# Altium footprint library PassiveSMT.PcbLib: 41 footprints (part 2 of 3)
Each footprint in its own frame and in the unit in brackets; x right, y up, seen from the top. Pads: shape width x height; smd on the part's side, far side on the other; paste and mask are expansions set on the pad; w line width, h text height; cw(c..) or ccw(c..) is an arc to the next point about the centre after c.
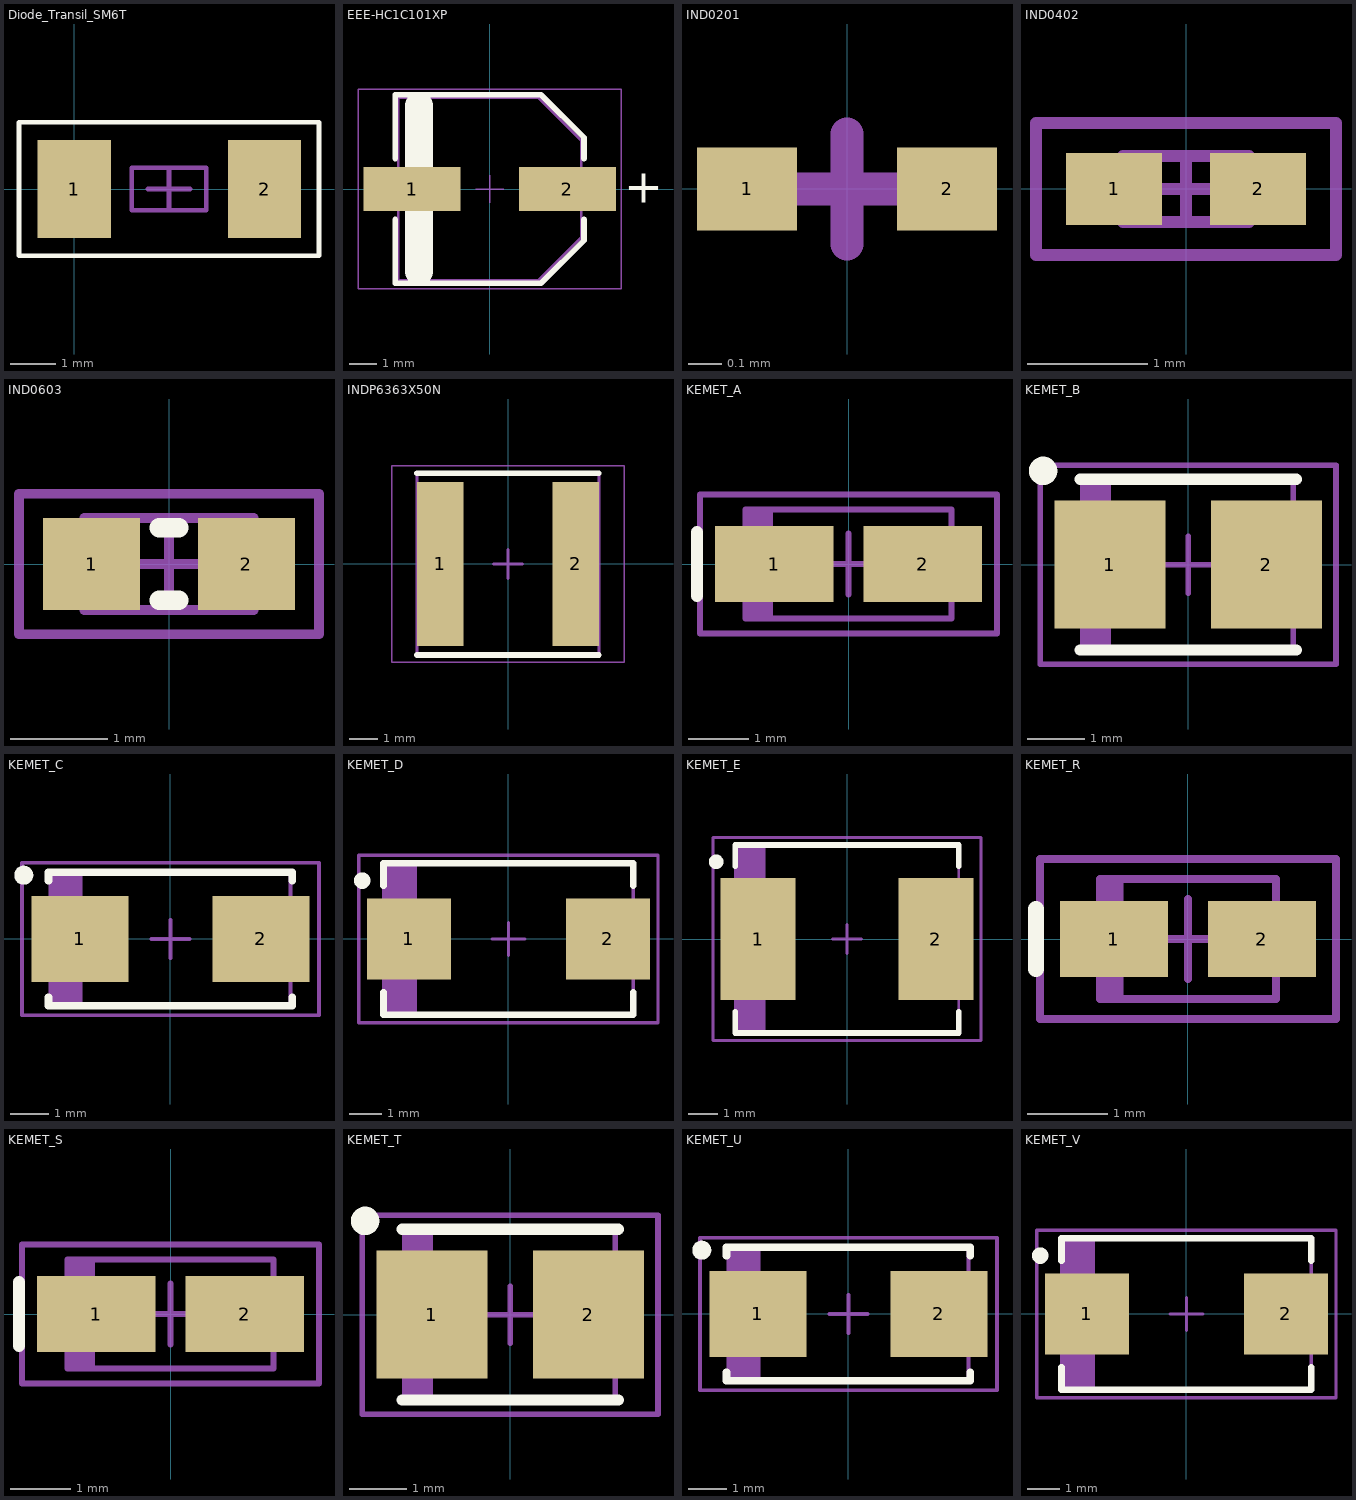
[diagram p1: the footprints below, top view; thin cyan lines are the x and y axes]

## Diode_Transil_SM6T [mm] "Diode_Transil_SM6T"
pads (2):
  rect 1.62x2.18 smd: 1(0,0) 2(4.22,0)
Top Overlay:
  lines w0.1: 1.788,-1.475 5.425,-1.475 5.425,0.025 ; 1.787,1.475 5.425,1.475 5.425,-0.025 ; 1.825,-1.475 1.063,-1.475 -0.462,-1.475 -1.225,-1.475 -1.225,1.475 -0.463,1.475 1.062,1.475 1.825,1.475
Mechanical 13:
  lines w0.1: 1.275,-0.475 1.275,0.475 2.925,0.475 2.925,-0.475 1.275,-0.475
Mechanical 15:
  lines w0.1: 1.625,0 2.575,0 ; 2.1,-0.475 2.1,0.475
3D body "RES0603.stp": height 0.45, standoff 0, extent 1.3,-0.4 2.9,0.4

## EEE-HC1C101XP [mm] "EEE-HC1C101XP"
pads (2):
  rect 3.5x1.6 smd: 1(-2.8,0) 2(2.8,0)
Top Overlay:
  lines w0.2: -3.4,-1.1 -3.4,-3.4 1.85,-3.4 3.4,-1.85 3.4,-1.1 ; -3.4,1.1 -3.4,3.4 1.85,3.4 3.4,1.85 3.4,1.1
  lines w1: -2.55,-2.975 -2.55,3
  text "+" at 4.85,-0.5 h1.22
Mechanical 13:
  lines w0.1: -3.3,-3.3 -3.3,3.3 1.75,3.3 3.3,1.75 3.3,-1.75 1.75,-3.3 -3.3,-3.3
Mechanical 15:
  lines w0.05: -0.5,0 0.5,0 ; 0,-0.5 0,0.5 ; -4.75,-3.6 -4.75,3.6 4.75,3.6 4.75,-3.6 -4.75,-3.6
3D body "6.3x7.7x2.2.stp": height 7.7, standoff 0, extent -3.65,-3.3 3.65,3.3

## IND0201 [mm] "Chip Inductor, 2-Leads, Body 0.6x0.3mm, IPC Medium Density"
height 0.3
pads (2):
  rect 0.3x0.25 smd: 1(-0.3,0) 2(0.3,0)
Mechanical 15:
  lines w0.1: -0.165,0 0.165,0 ; 0,-0.165 0,0.165
3D body: height 0.3, standoff 0, extent -0.315,-0.165 0.315,0.165

## IND0402 [mm] "Chip Inductor, 2-Leads, Body 1.0x0.5mm, IPC Medium Density"
height 0.5
pads (2):
  rect 0.8x0.6 smd: 1(-0.6,0) 2(0.6,0)
Mechanical 13:
  lines w0.1: -0.525,-0.275 -0.525,0.275 0.525,0.275 0.525,-0.275 -0.525,-0.275
Mechanical 15:
  lines w0.1: -0.275,0 0.275,0 ; 0,-0.275 0,0.275 ; -1.25,-0.55 -1.25,0.55 1.25,0.55 1.25,-0.55 -1.25,-0.55
3D body: height 0.5, standoff 0, extent -0.525,-0.275 0.525,0.275

## IND0603 [mm] "Chip Inductor, 2-Leads, Body 1.6x0.8mm, IPC Medium Density"
height 0.8
pads (2):
  rect 1x0.95 smd: 1(-0.8,0) 2(0.8,0)
Top Overlay:
  lines w0.2: -0.1,-0.375 0.1,-0.375 ; -0.1,0.375 0.1,0.375
Mechanical 13:
  lines w0.1: -0.875,-0.475 -0.875,0.475 0.875,0.475 0.875,-0.475 -0.875,-0.475
Mechanical 15:
  lines w0.1: -0.475,0 0.475,0 ; 0,-0.475 0,0.475 ; -1.55,-0.725 -1.55,0.725 1.55,0.725 1.55,-0.725 -1.55,-0.725
3D body: height 0.8, standoff 0, extent -0.875,-0.475 0.875,0.475

## INDP6363X50N [mm] "Precision Wire Wound Inductor, 2-Leads, Body 6,30x6,30mm, IPC Medium Density"
height 5
pads (2):
  rect 1.6x5.7 smd: 1(-2.35,0) 2(2.35,0)
Top Overlay:
  lines w0.2: -3.15,-3.15 3.15,-3.15 ; -3.15,3.15 3.15,3.15
Mechanical 13:
  lines w0.1: -3.15,-3.15 3.15,-3.15 3.15,3.15 -3.15,3.15 -3.15,-3.15
Mechanical 15:
  lines w0.05: -4.025,-3.4 4.025,-3.4 4.025,3.4 -4.025,3.4 -4.025,-3.4
  lines w0.1: -0.5,0 0.5,0 ; 0,-0.5 0,0.5
3D body: height 5, standoff 0, extent -3.15,-3.15 3.15,3.15

## KEMET_A [mm] "Molded Capacitor, 2-Leads, Body 3.2x1.6mm, IPC Medium Density"
height 1.8
pads (2):
  rect 1.95x1.25 smd: 1(-1.225,0) 2(1.225,0)
Top Overlay:
  lines w0.2: -2.5,-0.525 -2.5,0.525
Mechanical 13:
  rectangle: -1.7,-0.9 -1.243,0.9
  lines w0.1: -1.7,-0.9 -1.7,0.9 1.7,0.9 1.7,-0.9 -1.7,-0.9
Mechanical 15:
  lines w0.1: -0.5,0 0.5,0 ; 0,-0.5 0,0.5 ; -2.45,-1.15 -2.45,1.15 2.45,1.15 2.45,-1.15 -2.45,-1.15
3D body: height 1.8, standoff 0, extent -1.7,-0.9 1.7,0.9

## KEMET_B [mm] "Molded Capacitor, 2-Leads, Body 3.5x2.8mm, IPC Medium Density"
height 2.1
pads (2):
  rect 1.95x2.25 smd: 1(-1.375,0) 2(1.375,0)
Top Overlay:
  circle w0.25: c-2.55,1.65 r0.125
  lines w0.2: -1.9,-1.5 1.9,-1.5 ; -1.9,1.5 1.9,1.5
Mechanical 13:
  rectangle: -1.85,-1.5 -1.352,1.5
  lines w0.1: -1.85,-1.5 1.85,-1.5 1.85,1.5 -1.85,1.5 -1.85,-1.5
Mechanical 15:
  lines w0.1: -0.5,0 0.5,0 ; 0,-0.5 0,0.5 ; -2.6,-1.75 2.6,-1.75 2.6,1.75 -2.6,1.75 -2.6,-1.75
3D body: height 2.1, standoff 0, extent -1.85,-1.5 1.85,1.5

## KEMET_C [mm] "Molded Capacitor, 2-Leads, Body 6.0x3.2mm, IPC Medium Density"
height 2.8
pads (2):
  rect 2.55x2.25 smd: 1(-2.375,0) 2(2.375,0)
Top Overlay:
  circle w0.25: c-3.85,1.675 r0.125
  lines w0.2: -3.2,-1.525 -3.2,-1.75 3.2,-1.75 3.2,-1.525 ; -3.2,1.525 -3.2,1.75 3.2,1.75 3.2,1.525
Mechanical 13:
  rectangle: -3.15,-1.75 -2.303,1.75
  lines w0.1: -3.15,-1.75 3.15,-1.75 3.15,1.75 -3.15,1.75 -3.15,-1.75
Mechanical 15:
  lines w0.1: -0.5,0 0.5,0 ; 0,-0.5 0,0.5 ; -3.9,-2 3.9,-2 3.9,2 -3.9,2 -3.9,-2
3D body: height 2.8, standoff 0, extent -3.15,-1.75 3.15,1.75

## KEMET_D [mm] "Molded Capacitor, 2-Leads, Body 7.3x4.3mm, IPC Medium Density"
height 3.1
pads (2):
  rect 2.55x2.45 smd: 1(-3.025,0) 2(3.025,0)
Top Overlay:
  circle w0.25: c-4.45,1.775 r0.125
  lines w0.2: -3.8,-1.625 -3.8,-2.3 3.8,-2.3 3.8,-1.625 ; -3.8,1.625 -3.8,2.3 3.8,2.3 3.8,1.625
Mechanical 13:
  rectangle: -3.8,-2.3 -2.778,2.3
  lines w0.1: -3.8,-2.3 -3.8,2.3 3.8,2.3 3.8,-2.3 -3.8,-2.3
Mechanical 15:
  lines w0.1: -0.5,0 0.5,0 ; 0,-0.5 0,0.5 ; -4.55,-2.55 -4.55,2.55 4.55,2.55 4.55,-2.55 -4.55,-2.55
3D body: height 3.1, standoff 0, extent -3.8,-2.3 3.8,2.3

## KEMET_E [mm] "Molded Capacitor, 2-Leads, Body 7.3x6.0mm, IPC Medium Density"
height 3.8
pads (2):
  rect 2.55x4.15 smd: 1(-3.025,0) 2(3.025,0)
Top Overlay:
  circle w0.25: c-4.45,2.625 r0.125
  lines w0.2: -3.8,-2.475 -3.8,-3.2 3.8,-3.2 3.8,-2.475 ; -3.8,2.475 -3.8,3.2 3.8,3.2 3.8,2.475
Mechanical 13:
  rectangle: -3.8,-3.15 -2.778,3.15
  lines w0.1: -3.8,-3.15 3.8,-3.15 3.8,3.15 -3.8,3.15 -3.8,-3.15
Mechanical 15:
  lines w0.1: -0.5,0 0.5,0 ; 0,-0.5 0,0.5 ; -4.55,-3.45 4.55,-3.45 4.55,3.45 -4.55,3.45 -4.55,-3.45
3D body: height 3.8, standoff 0, extent -3.8,-3.15 3.8,3.15

## KEMET_R [mm] "Molded Capacitor, 2-Leads, Body 2.0x1.3mm, IPC Medium Density"
height 1.2
pads (2):
  rect 1.35x0.95 smd: 1(-0.925,0) 2(0.925,0)
Top Overlay:
  lines w0.2: -1.9,-0.375 -1.9,0.375
Mechanical 13:
  rectangle: -1.1,-0.75 -0.804,0.75
  lines w0.1: -1.1,-0.75 1.1,-0.75 1.1,0.75 -1.1,0.75 -1.1,-0.75
Mechanical 15:
  lines w0.1: -0.5,0 0.5,0 ; 0,-0.5 0,0.5 ; -1.85,-1 1.85,-1 1.85,1 -1.85,1 -1.85,-1
3D body: height 1.2, standoff 0, extent -1.1,-0.75 1.1,0.75

## KEMET_S [mm] "Molded Capacitor, 2-Leads, Body 3.2x1.6mm, IPC Medium Density"
height 1.2
pads (2):
  rect 1.95x1.25 smd: 1(-1.225,0) 2(1.225,0)
Top Overlay:
  lines w0.2: -2.5,-0.525 -2.5,0.525
Mechanical 13:
  rectangle: -1.7,-0.9 -1.243,0.9
  lines w0.1: -1.7,-0.9 1.7,-0.9 1.7,0.9 -1.7,0.9 -1.7,-0.9
Mechanical 15:
  lines w0.1: -0.5,0 0.5,0 ; 0,-0.5 0,0.5 ; -2.45,-1.15 2.45,-1.15 2.45,1.15 -2.45,1.15 -2.45,-1.15
3D body: height 1.2, standoff 0, extent -1.7,-0.9 1.7,0.9

## KEMET_T [mm] "Molded Capacitor, 2-Leads, Body 3.5x2.8mm, IPC Medium Density"
height 1.2
pads (2):
  rect 1.95x2.25 smd: 1(-1.375,0) 2(1.375,0)
Top Overlay:
  circle w0.25: c-2.55,1.65 r0.125
  lines w0.2: -1.9,-1.5 1.9,-1.5 ; -1.9,1.5 1.9,1.5
Mechanical 13:
  rectangle: -1.85,-1.5 -1.352,1.5
  lines w0.1: -1.85,-1.5 -1.85,1.5 1.85,1.5 1.85,-1.5 -1.85,-1.5
Mechanical 15:
  lines w0.1: -0.5,0 0.5,0 ; 0,-0.5 0,0.5 ; -2.6,-1.75 -2.6,1.75 2.6,1.75 2.6,-1.75 -2.6,-1.75
3D body: height 2.1, standoff 0, extent -1.85,-1.5 1.85,1.5

## KEMET_U [mm] "Molded Capacitor, 2-Leads, Body 6.0x3.2mm, IPC Medium Density"
height 1.5
pads (2):
  rect 2.55x2.25 smd: 1(-2.375,0) 2(2.375,0)
Top Overlay:
  circle w0.25: c-3.85,1.675 r0.125
  lines w0.2: -3.2,-1.525 -3.2,-1.75 3.2,-1.75 3.2,-1.525 ; -3.2,1.525 -3.2,1.75 3.2,1.75 3.2,1.525
Mechanical 13:
  rectangle: -3.15,-1.75 -2.303,1.75
  lines w0.1: -3.15,-1.75 -3.15,1.75 3.15,1.75 3.15,-1.75 -3.15,-1.75
Mechanical 15:
  lines w0.1: -0.5,0 0.5,0 ; 0,-0.5 0,0.5 ; -3.9,-2 -3.9,2 3.9,2 3.9,-2 -3.9,-2
3D body: height 2.8, standoff 0, extent -3.15,-1.75 3.15,1.75

## KEMET_V [mm] "Molded Capacitor, 2-Leads, Body 7.3x4.3mm, IPC Medium Density"
height 2
pads (2):
  rect 2.55x2.45 smd: 1(-3.025,0) 2(3.025,0)
Top Overlay:
  circle w0.25: c-4.45,1.775 r0.125
  lines w0.2: -3.8,-1.625 -3.8,-2.3 3.8,-2.3 3.8,-1.625 ; -3.8,1.625 -3.8,2.3 3.8,2.3 3.8,1.625
Mechanical 13:
  rectangle: -3.8,-2.3 -2.778,2.3
  lines w0.1: -3.8,-2.3 -3.8,2.3 3.8,2.3 3.8,-2.3 -3.8,-2.3
Mechanical 15:
  lines w0.1: -0.5,0 0.5,0 ; 0,-0.5 0,0.5 ; -4.55,-2.55 -4.55,2.55 4.55,2.55 4.55,-2.55 -4.55,-2.55
3D body: height 3.1, standoff 0, extent -3.8,-2.3 3.8,2.3